# EAGLE library part OMRONLED (library untitled)
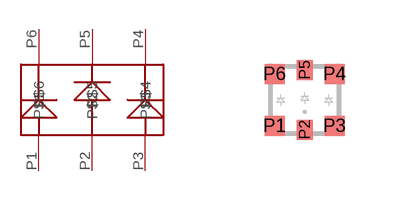
[diagram p10: symbol with the pads of OMRONLED; footprint OMRONLED]

Designator prefix -

## OMRONLED  [OMRONLED]
P1  P$1
P2  P$2
P3  P$3
P4  P$4
P5  P$5
P6  P$6

## Footprint OMRONLED (pad centres in mm)
smd 0.5 x 0.5: P1 -0.75,-0.65; P3 0.75,-0.65; P4 0.75,0.65; P6 -0.75,0.65
smd 0.4 x 0.5: P2 0,-0.75; P5 0,0.75